# Altium schematic symbol library SensorNode.SchLib: 4 symbols
Pins are listed as number, name and electrical type; pins without a type are passive.

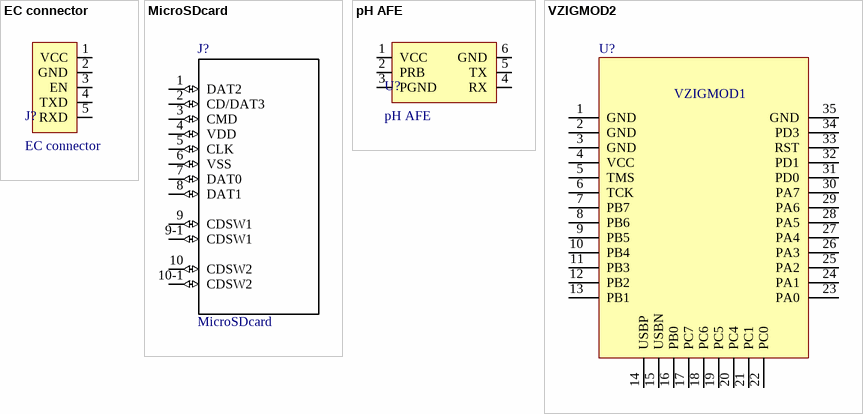
[diagram p0: symbols EC connector to VZIGMOD2]

## EC connector
designator J?
footprint CON 5
pins: 1 VCC, 2 GND, 3 EN, 4 TXD, 5 RXD

## MicroSDcard
designator J?
footprint microSD
pins: 1 DAT2 (io), 2 CD/DAT3 (io), 3 CMD (io), 4 VDD (io), 5 CLK (io), 6 VSS (io), 7 DAT0 (io), 8 DAT1 (io), 9 CDSW1 (io), 9-1 CDSW1 (io), 10 CDSW2 (io), 10-1 CDSW2 (io)

## pH AFE
designator U?
footprint pH AFE
pins: 1 VCC, 2 PRB, 3 PGND, 4 RX, 5 TX, 6 GND

## VZIGMOD2
designator U?, comment VZIGMOD1
VNPT ZIGBEE MODULE V1 - No-PA; Manufacturer: VNPT-Technology; Utilized IC / Part: CC2538; Catgory: RF/IF and RFID; Sensitivity: -99dBm; Data Rate: 250kbps; Frequency: 2.4GHz; Power - Output: 7dBm; Serial Interfaces: I²C, SPI, UART; Antenna Type: Integrated, PCB, External; Voltage - Supply: 1.85 V ~ 3.8 V; Module: Connectivity; Manufacturer Part Number: VZIGMOD1; Mounting Type: Surface Mount; Operating Temperature: -40°C ~ 85°C; Package / Case: 33-SMD Module
footprint VZIGMOD2
pins: 1 GND, 2 GND, 3 GND, 4 VCC, 5 TMS, 6 TCK, 7 PB7, 8 PB6, 9 PB5, 10 PB4, 11 PB3, 12 PB2, 13 PB1, 14 USBP, 15 USBN, 16 PB0, 17 PC7, 18 PC6, 19 PC5, 20 PC4, 21 PC1, 22 PC0, 23 PA0, 24 PA1, 25 PA2, 26 PA3, 27 PA4, 28 PA5, 29 PA6, 30 PA7, 31 PD0, 32 PD1, 33 RST, 34 PD3, 35 GND